# EAGLE library part OLIMEX_IC_HY5DU121622D(L)T(P) (library iMX233-OLinuXino-Micro_Rev_D)
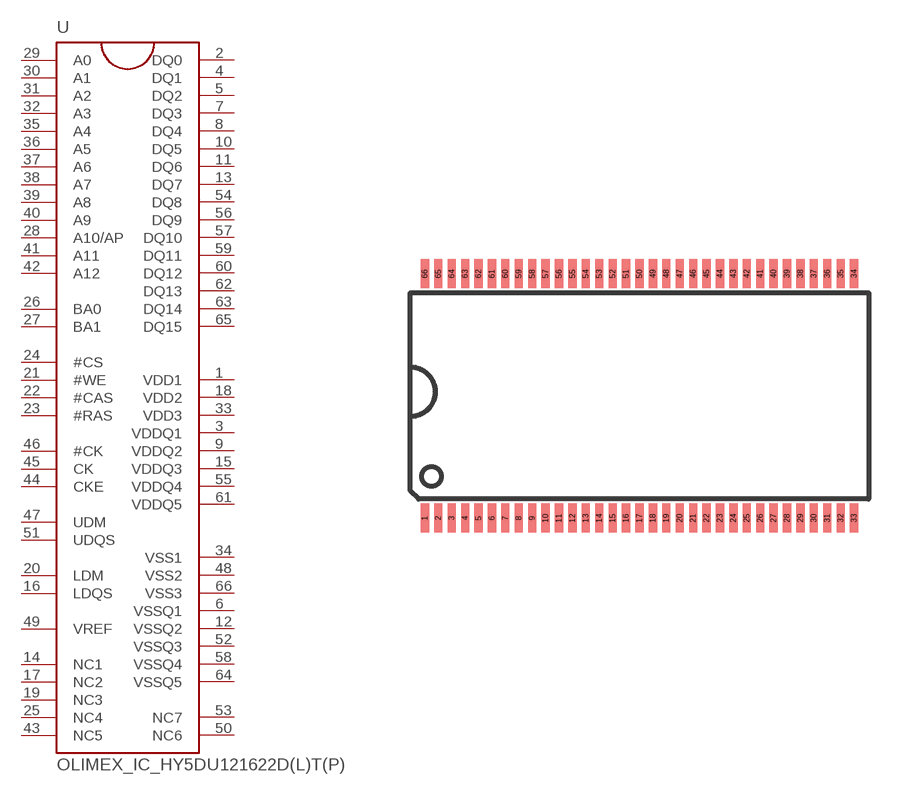
[diagram p5: symbol with the pads of OLIMEX_IC_66TSOP-II; footprint OLIMEX_IC_66TSOP-II]

Designator prefix U

## OLIMEX_IC_HY5DU121622D(L)T(P)-J  [OLIMEX_IC_66TSOP-II]
1  VDD1  pwr
2  DQ0
3  VDDQ1  pwr
4  DQ1
5  DQ2
6  VSSQ1  pwr
7  DQ3
8  DQ4
9  VDDQ2  pwr
10  DQ5
11  DQ6
12  VSSQ2  pwr
13  DQ7
14  NC1  nc
15  VDDQ3  pwr
16  LDQS
17  NC2  nc
18  VDD2  pwr
19  NC3  nc
20  LDM  in
21  #WE  in
22  #CAS  in
23  #RAS  in
24  #CS  in
25  NC4  nc
26  BA0  in
27  BA1  in
28  A10/AP  in
29  A0  in
30  A1  in
31  A2  in
32  A3  in
33  VDD3  pwr
34  VSS1  pwr
35  A4  in
36  A5  in
37  A6  in
38  A7  in
39  A8  in
40  A9  in
41  A11  in
42  A12  in
43  NC5  nc
44  CKE  in
45  CK  in
46  #CK  in
47  UDM  in
48  VSS2  pwr
49  VREF  in
50  NC6  nc
51  UDQS  in
52  VSSQ3  pwr
53  NC7  nc
54  DQ8
55  VDDQ4  pwr
56  DQ9
57  DQ10
58  VSSQ4  pwr
59  DQ11
60  DQ12
61  VDDQ5  pwr
62  DQ13
63  DQ14
64  VSSQ5  pwr
65  DQ15
66  VSS3  pwr

## Footprint OLIMEX_IC_66TSOP-II (pad centres in mm)
smd 0.4 x 1.4: 1 -10.4,-5.925; 2 -9.75,-5.925; 3 -9.1,-5.925; 4 -8.45,-5.925; 5 -7.8,-5.925; 6 -7.15,-5.925; 7 -6.5,-5.925; 8 -5.85,-5.925; 9 -5.2,-5.925; 10 -4.55,-5.925; 11 -3.9,-5.925; 12 -3.25,-5.925; 13 -2.6,-5.925; 14 -1.95,-5.925; 15 -1.3,-5.925; 16 -0.65,-5.925; 17 0,-5.925; 18 0.65,-5.925; 19 1.3,-5.925; 20 1.95,-5.925; 21 2.6,-5.925; 22 3.25,-5.925; 23 3.9,-5.925; 24 4.55,-5.925; 25 5.2,-5.925; 26 5.85,-5.925; 27 6.5,-5.925; 28 7.15,-5.925; 29 7.8,-5.925; 30 8.45,-5.925; 31 9.1,-5.925; 32 9.75,-5.925; 33 10.4,-5.925; 34 10.4,5.925; 35 9.75,5.925; 36 9.1,5.925; 37 8.45,5.925; 38 7.8,5.925; 39 7.15,5.925; 40 6.5,5.925; 41 5.85,5.925; 42 5.2,5.925; 43 4.55,5.925; 44 3.9,5.925; 45 3.25,5.925; 46 2.6,5.925; 47 1.95,5.925; 48 1.3,5.925; 49 0.65,5.925; 50 0,5.925; 51 -0.65,5.925; 52 -1.3,5.925; 53 -1.95,5.925; 54 -2.6,5.925; 55 -3.25,5.925; 56 -3.9,5.925; 57 -4.55,5.925; 58 -5.2,5.925; 59 -5.85,5.925; 60 -6.5,5.925; 61 -7.15,5.925; 62 -7.8,5.925; 63 -8.45,5.925; 64 -9.1,5.925; 65 -9.75,5.925; 66 -10.4,5.925